# EAGLE library part SHARP27_REV (library sharp)
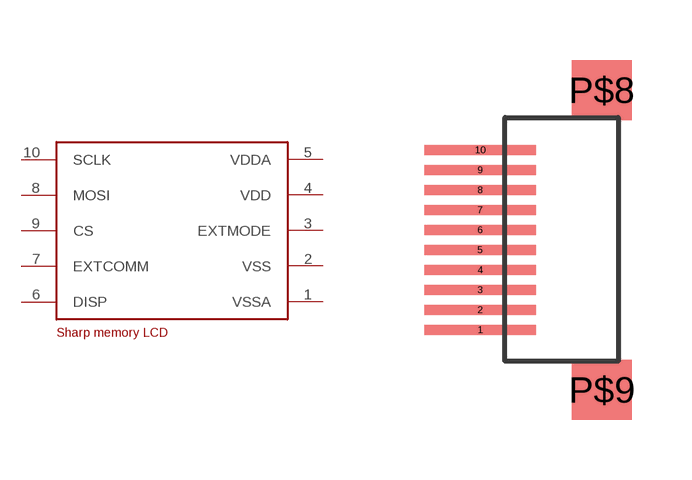
[diagram p1: symbol with the pads of SHARP27; footprint SHARP27]

Designator prefix -

## SHARP27_REV  [SHARP27]
1  VSSA
2  VSS
3  EXTMODE
4  VDD
5  VDDA
6  DISP
7  EXTCOMM
8  MOSI
9  CS
10  SCLK

## Footprint SHARP27 (pad centres in mm)
smd 2.8 x 0.25: 1 -2.62,-2.21; 2 -2.62,-1.71; 3 -2.62,-1.21; 4 -2.62,-0.71; 5 -2.62,-0.21; 6 -2.62,0.29; 7 -2.62,0.79; 8 -2.62,1.29; 9 -2.62,1.79; 10 -2.62,2.29
smd 1.5 x 1.5: P$8 0.425,3.79; P$9 0.425,-3.71